# EAGLE library part JW-2FORM-C (library relay)
JW Series, Panasonic/NAIS
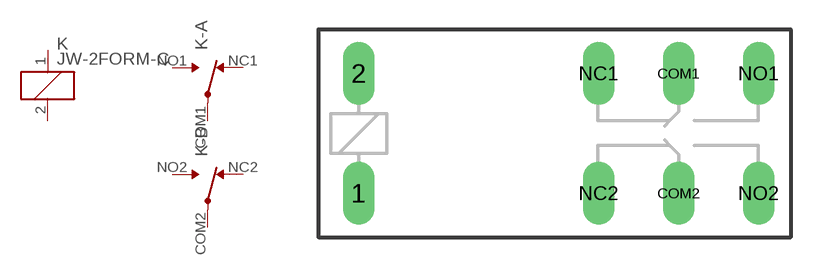
[diagram p52: symbol with the pads of JW-2FORM-C; footprint JW-2FORM-C]

Designator prefix K; gates G$1=K -A=U -B=U

## JW-2FORM-C  [JW-2FORM-C]
1  G$1:1  pas
2  G$1:2  pas
COM1  -A:COM  pas
COM2  -B:COM  pas
NC1  -A:NC  pas
NC2  -B:NC  pas
NO1  -A:NO  pas
NO2  -B:NO  pas

## Footprint JW-2FORM-C (pad centres in mm)
drill 1.321 long: 1 0,-3.75; 2 0,3.75; COM1 20,3.75; COM2 20,-3.75; NC1 15,3.75; NC2 15,-3.75; NO1 25,3.75; NO2 25,-3.75